# EAGLE library part ADUC814* (library analog-devices)
MicroConverter® 12-Bit ADC with Embedded FLASH MCU Small Package
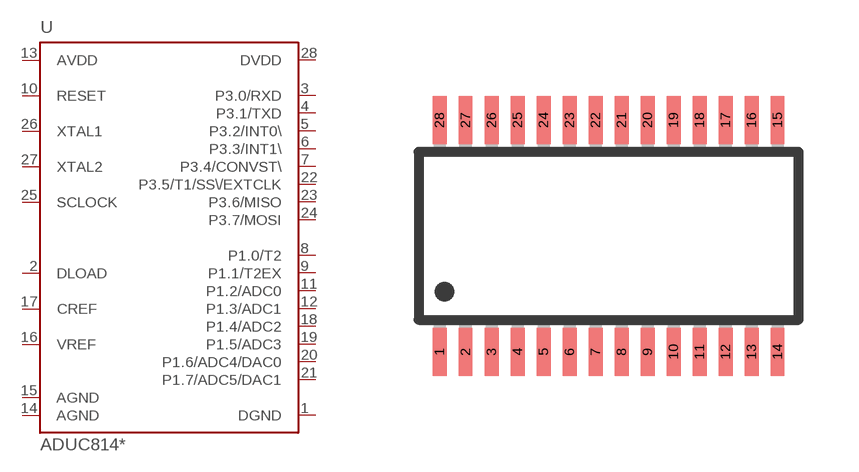
[diagram p22: symbol with the pads of TSSOP28; footprint TSSOP28]

Designator prefix -

## ADUC814ARU, ADUC814BRU  [TSSOP28]
1  DGND  pwr
2  DLOAD  in
3  P3.0/RXD
4  P3.1/TXD
5  P3.2/INT0\
6  P3.3/INT1\
7  P3.4/CONVST\
8  P1.0/T2
9  P1.1/T2EX
10  RESET  in
11  P1.2/ADC0
12  P1.3/ADC1
13  AVDD  pwr
14  AGND  pwr
15  AGND  pwr
16  VREF  pas
17  CREF  pas
18  P1.4/ADC2
19  P1.5/ADC3
20  P1.6/ADC4/DAC0
21  P1.7/ADC5/DAC1
22  P3.5/T1/SS\/EXTCLK
23  P3.6/MISO
24  P3.7/MOSI
25  SCLOCK
26  XTAL1
27  XTAL2
28  DVDD  pwr

## Footprint TSSOP28 (pad centres in mm)
28-Lead TSSOP Package RU-28
smd 0.35 x 1.2: 1 -4.225,-2.9; 2 -3.575,-2.9; 3 -2.925,-2.9; 4 -2.275,-2.9; 5 -1.625,-2.9; 6 -0.975,-2.9; 7 -0.325,-2.9; 8 0.325,-2.9; 9 0.975,-2.9; 10 1.625,-2.9; 11 2.275,-2.9; 12 2.925,-2.9; 13 3.575,-2.9; 14 4.225,-2.9; 15 4.225,2.9; 16 3.575,2.9; 17 2.925,2.9; 18 2.275,2.9; 19 1.625,2.9; 20 0.975,2.9; 21 0.325,2.9; 22 -0.325,2.9; 23 -0.975,2.9; 24 -1.625,2.9; 25 -2.275,2.9; 26 -2.925,2.9; 27 -3.575,2.9; 28 -4.225,2.9